# EAGLE library part LTS15-NP (library sensors)
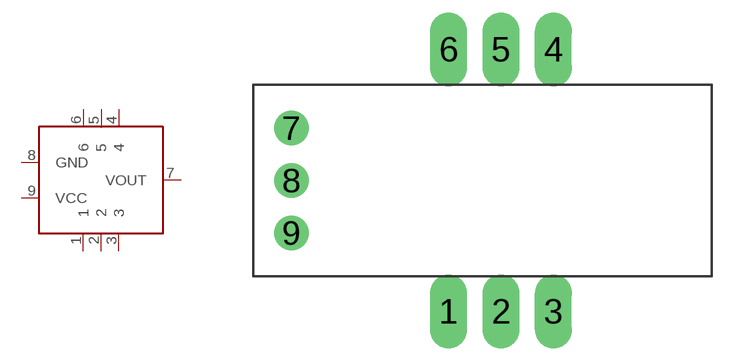
[diagram p1: symbol with the pads of CURRENTSENSOR; footprint CURRENTSENSOR]

Designator prefix IC

## LTS15-NP  [CURRENTSENSOR]
1  1  in
2  2  in
3  3  in
4  4  out
5  5  out
6  6  out
7  VOUT  out
8  GND  pwr
9  VCC  pwr

## Footprint CURRENTSENSOR (pad centres in mm)
drill 1.194 long: 1 -1.64,-6.35; 2 0.9,-6.35; 3 3.44,-6.35; 4 3.44,6.35; 5 0.9,6.35; 6 -1.64,6.35
drill 0.635 pad 1.676 round: 7 -9.26,2.54; 8 -9.26,0; 9 -9.26,-2.54